# Altium footprint library SparkFun-Switches.PCBLIB: 50 footprints (part 4 of 5)
Each footprint in its own frame and in the unit in brackets; x right, y up, seen from the top. Pads: shape width x height; smd on the part's side, far side on the other; paste and mask are expansions set on the pad; w line width, h text height; cw(c..) or ccw(c..) is an arc to the next point about the centre after c.
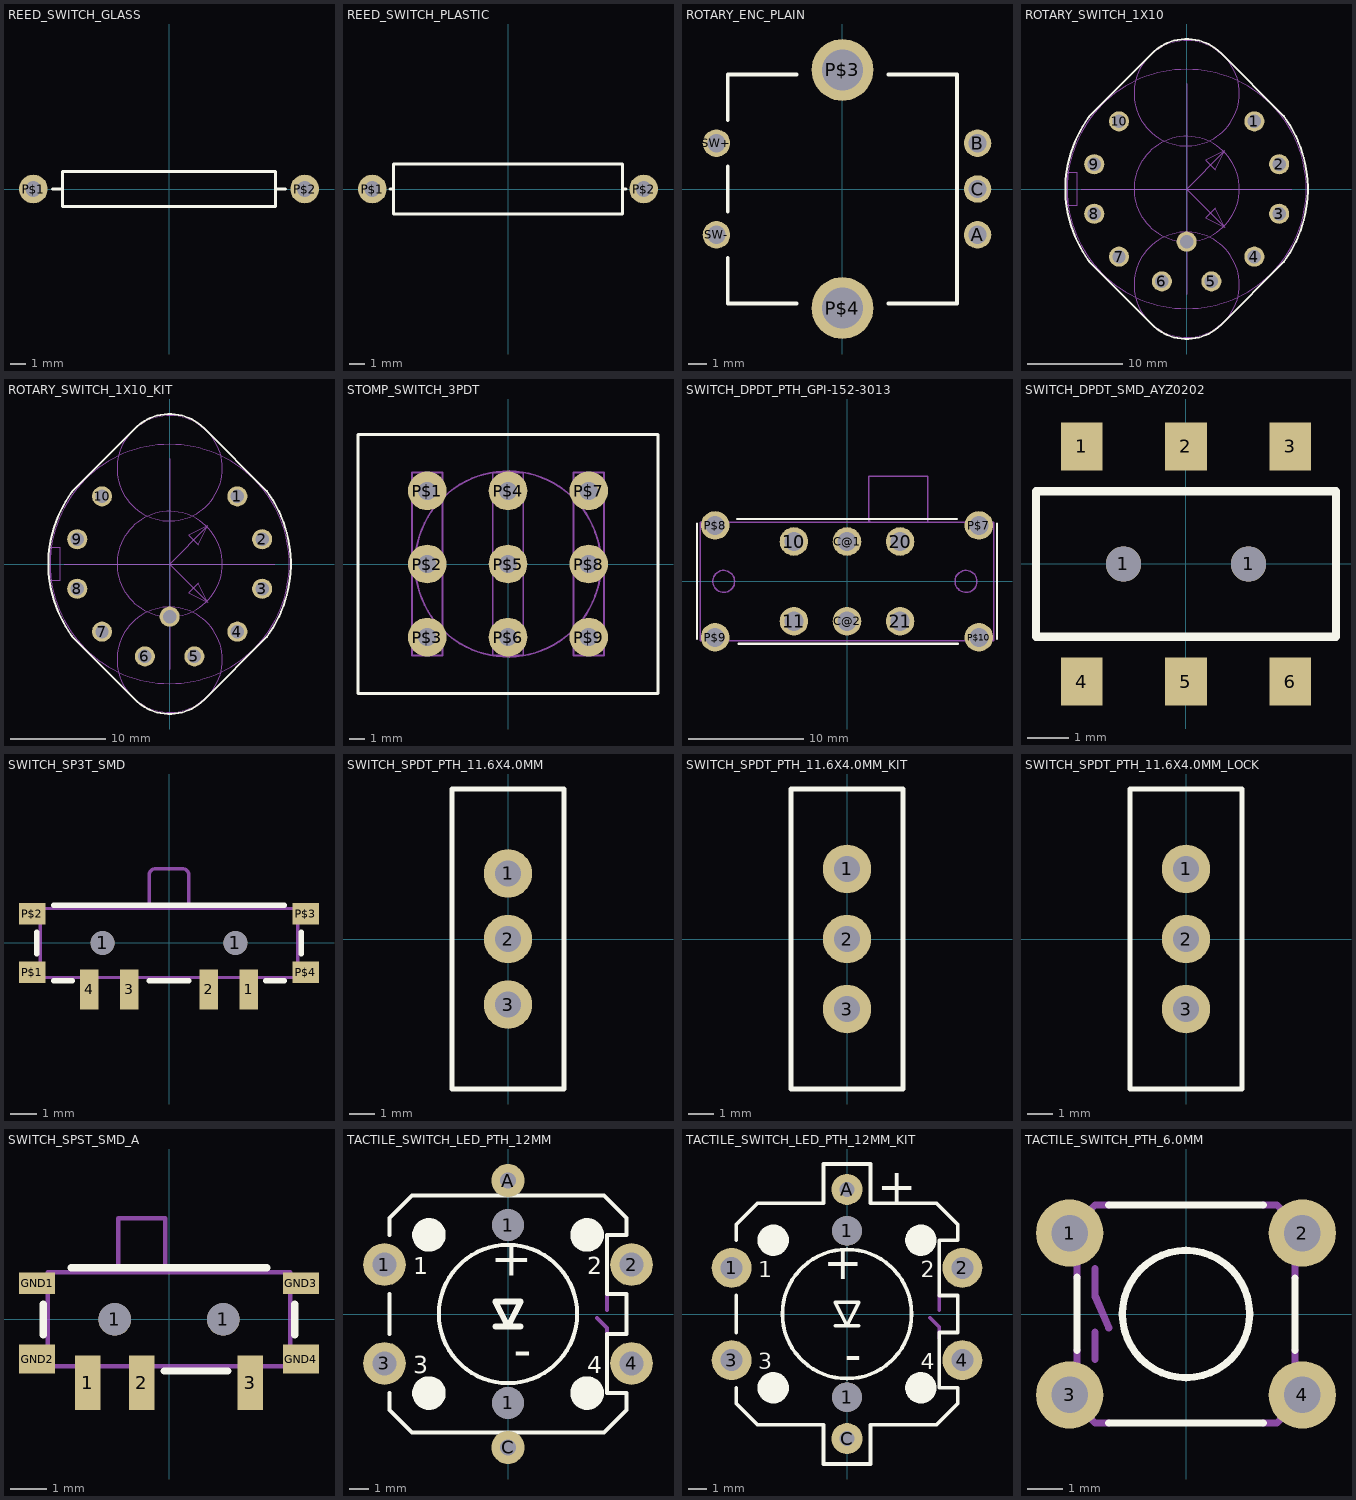
[diagram p3: the footprints below, top view; thin cyan lines are the x and y axes]

## REED_SWITCH_GLASS [mil]
pads (2):
  round 74 hole 40: P$1(-350,0) P$2(350,0)
Top Overlay:
  lines w8: -300,0 -275,0 ; 300,0 275,0 ; -275,0 -275,-45 275,-45 275,0 ; -275,0 -275,45 275,45 275,0

## REED_SWITCH_PLASTIC [mil]
pads (2):
  round 74 hole 40: P$1(-350,0) P$2(350,0)
Top Overlay:
  lines w8: -303.94,0 -295.28,0 ; 303.94,0 295.28,0 ; -295.28,0 -295.28,-64.96 295.28,-64.96 295.28,0 ; -295.28,0 -295.28,64.96 295.28,64.96 295.28,0

## ROTARY_ENC_PLAIN [mil]
pads (7):
  round 60 hole 40: A(295,-100) B(295,100) C(295,0) SW+(-275,100) SW-(-275,-100)
  round 135 hole 90: P$3(0,260) P$4(0,-260)
Top Overlay:
  lines w8: -250,-150 -250,-250 -100,-250 ; -250,-50 -250,50 ; -250,150 -250,250 -100,250 ; 100,-250 250,-250 250,250 100,250

## ROTARY_SWITCH_1X10 [mil]
pads (11):
  round 82.68 hole 55.12: 1(278.39,278.39) 2(380.29,101.9) 3(380.29,-101.9) 4(278.39,-278.39) 5(101.9,-380.29) 6(-101.9,-380.29) 7(-278.39,-278.39) 8(-380.29,-101.9) 9(-380.29,101.9) 10(-278.39,278.39) COMMON(0,-216.54)
Top Overlay:
  lines w8: -415.1,-277.35 cw(c0.92,0) -415.1,277.35 -400,300 -141.42,558.58 cw(c0,417.16) 141.42,558.58 400,300 414.18,278.73 cw(c-3.91,0) 414.18,-278.73 400,-300 141.42,-558.58 cw(c0,-417.16) -141.42,-558.58 -400,-300 -415.1,-277.35
Mechanical 16:
  circle w5: c0,0 r216.54
  circle w5: c0,0 r492.13
  circle w5: c0,393.7 r216.54
  circle w5: c0,-393.7 r216.54
  lines w5: -433.07,0 0,0 ; 0,-433.07 0,0 ; 0,433.07 0,0 ; 433.07,0 0,0 ; 0,0 157.48,-157.48 ; 0,0 157.48,157.48 ; 157.48,-157.48 118.11,-78.74 78.74,-118.11 157.48,-157.48 ; 157.48,157.48 78.74,118.11 118.11,78.74 157.48,157.48 ; -492.13,-68.9 -452.76,-68.9 -452.76,68.9 -492.13,68.9 -492.13,-68.9
  text "1" at 157.48,-196.85 h42.5
  text "10" at 157.48,157.48 h42.5

## ROTARY_SWITCH_1X10_KIT [mil]
pads (11):
  round 82.68 hole 55.12: 1(278.39,278.39) 2(380.29,101.9) 3(380.29,-101.9) 4(278.39,-278.39) 5(101.9,-380.29) 6(-101.9,-380.29) 7(-278.39,-278.39) 8(-380.29,-101.9) 9(-380.29,101.9) 10(-278.39,278.39) COMMON(0,-216.54)
Top Overlay:
  lines w8: -415.1,-277.35 cw(c0.92,0) -415.1,277.35 -400,300 -141.42,558.58 cw(c0,417.16) 141.42,558.58 400,300 414.18,278.73 cw(c-3.91,0) 414.18,-278.73 400,-300 141.42,-558.58 cw(c0,-417.16) -141.42,-558.58 -400,-300 -415.1,-277.35
Top Solder:
  circle w0: c-278.39,278.39 r27.56
  circle w0: c-380.29,101.9 r27.56
  circle w0: c-380.29,-101.9 r27.56
  circle w0: c-278.39,-278.39 r27.56
  circle w0: c0,-216.54 r27.56
  circle w0: c-101.9,-380.29 r27.56
  circle w0: c101.9,-380.29 r27.56
  circle w0: c278.39,-278.39 r27.56
  circle w0: c380.29,-101.9 r27.56
  circle w0: c380.29,101.9 r27.56
  circle w0: c278.39,278.39 r27.56
Bottom Solder:
  circle w0: c-278.39,278.39 r41.34
  circle w0: c-380.29,101.9 r41.34
  circle w0: c-380.29,-101.9 r41.34
  circle w0: c0,-216.54 r41.34
  circle w0: c-278.39,-278.39 r41.34
  circle w0: c-101.9,-380.29 r41.34
  circle w0: c101.9,-380.29 r41.34
  circle w0: c278.39,-278.39 r41.34
  circle w0: c380.29,-101.9 r41.34
  circle w0: c380.29,101.9 r41.34
  circle w0: c278.39,278.39 r41.34
Mechanical 16:
  circle w5: c0,0 r216.54
  circle w5: c0,0 r492.13
  circle w5: c0,393.7 r216.54
  circle w5: c0,-393.7 r216.54
  lines w5: -433.07,0 0,0 ; 0,-433.07 0,0 ; 0,433.07 0,0 ; 433.07,0 0,0 ; 0,0 157.48,-157.48 ; 0,0 157.48,157.48 ; 157.48,-157.48 118.11,-78.74 78.74,-118.11 157.48,-157.48 ; 157.48,157.48 78.74,118.11 118.11,78.74 157.48,157.48 ; -492.13,-68.9 -452.76,-68.9 -452.76,68.9 -492.13,68.9 -492.13,-68.9
  text "1" at 157.48,-196.85 h42.5
  text "10" at 157.48,157.48 h42.5

## STOMP_SWITCH_3PDT [mil]
pads (9):
  round 100 hole 47.24: P$1(-208.66,188.98) P$2(-208.66,0) P$3(-208.66,-188.98) P$4(0,188.98) P$5(0,0) P$6(0,-188.98) P$7(208.66,188.98) P$8(208.66,0) P$9(208.66,-188.98)
Top Overlay:
  lines w8: -387.8,-334.65 387.8,-334.65 387.8,334.65 -387.8,334.65 -387.8,-334.65
Mechanical 16:
  circle w5: c0,0 r240.16
  lines w5: -248.03,-236.22 -248.03,236.22 -169.29,236.22 -169.29,-236.22 -248.03,-236.22 ; -39.37,-236.22 39.37,-236.22 39.37,236.22 -39.37,236.22 -39.37,-236.22 ; 169.29,-236.22 169.29,236.22 248.03,236.22 248.03,-236.22 169.29,-236.22

## SWITCH_DPDT_PTH_GPI-152-3013 [mm]
pads (10):
  round 2.475 hole 1.65: 10(-4.6,3.455) 11(-4.6,-3.455) 20(4.6,3.455) 21(4.6,-3.455) C@1(0,3.455) C@2(0,-3.455) P$7(11.43,4.85) P$8(-11.43,4.85) P$9(-11.43,-4.85) P$10(11.43,-4.85)
Top Overlay:
  lines w0.203: -13,-5 -13,5 ; -9.5,5.4 9.5,5.4 ; -9.4,-5.4 9.6,-5.4 ; 13,-5 13,5
Mechanical 16:
  circle w0.127: c10.31,0 r0.952
  circle w0.127: c-10.69,0 r0.952
  lines w0.127: 2,5.2 1.9,5.2 1.9,9.1 7,9.1 7,5.2 ; -12.7,-5.13 -12.7,5.13 12.7,5.13 12.7,-5.13 -12.7,-5.13

## SWITCH_DPDT_SMD_AYZ0202 [mm]
pads (8):
  rect 1x1.15 smd: 1(-2.5,2.825) 2(0,2.825) 3(2.5,2.825) 4(-2.5,-2.825) 5(0,-2.825) 6(2.5,-2.825)
  round 0.85 hole 0.85: 1(-1.5,0) 1(1.5,0)
Top Overlay:
  lines w0.203: -3.6,-1.75 -3.6,1.75 3.6,1.75 3.6,-1.75 -3.6,-1.75

## SWITCH_SP3T_SMD [mm]
pads (10):
  round 0.9 hole 0.9: 1(-2.5,0) 1(2.5,0)
  rect 0.7x1.5 smd: 1(3,-1.75) 2(1.5,-1.75) 3(-1.5,-1.75) 4(-3,-1.75)
  rect 1x0.8 smd: P$1(-5.15,-1.1) P$2(-5.15,1.1) P$3(5.15,1.1) P$4(5.15,-1.1)
Top Overlay:
  lines w0.203: -4.977,-0.4 -4.977,0.4 ; -4.35,-1.427 -3.65,-1.427 ; -4.35,1.427 4.35,1.427 ; -0.75,-1.427 0.75,-1.427 ; 3.65,-1.427 4.35,-1.427 ; 4.977,-0.4 4.977,0.4
Mechanical 16:
  rectangle: 1.3,-2.2 1.7,-1.3
  rectangle: 2.8,-2.2 3.2,-1.3
  rectangle: -1.7,-2.2 -1.3,-1.3
  rectangle: -3.2,-2.2 -2.8,-1.3
  rectangle: 4.85,0.9 5.35,1.3
  region: -4.85,1.3 -5.35,1.3 -5.35,0.9 -4.85,0.9
  region: -4.85,-0.9 -5.35,-0.9 -5.35,-1.3 -4.85,-1.3
  rectangle: 4.85,-1.3 5.35,-0.9
  lines w0.127: -0.75,1.3 -0.75,2.55 cw(c-0.5,2.55) -0.5,2.8 0.5,2.8 cw(c0.5,2.55) 0.75,2.55 0.75,1.3 ; -4.85,-1.3 4.85,-1.3 4.85,1.3 -4.85,1.3 -4.85,-1.3

## SWITCH_SPDT_PTH_11.6X4.0MM [mil]
pads (3):
  round 74 hole 40: 1(0,100) 2(0,0) 3(0,-100)
Top Overlay:
  lines w8: -85.63,-228.94 -85.63,228.94 85.63,228.94 85.63,-228.94 -85.63,-228.94

## SWITCH_SPDT_PTH_11.6X4.0MM_KIT [mil]
pads (3):
  round 74 hole 40: 1(0,107) 2(0,0) 3(0,-107)
Top Overlay:
  lines w8: -85.63,-228.94 -85.63,228.94 85.63,228.94 85.63,-228.94 -85.63,-228.94
Top Solder:
  region: 0,0 10,0 10,10 0,10
  region: 0,0 10,0 10,10 0,10
  region: 0,0 10,0 10,10 0,10
Bottom Solder:
  region: 0,0 10,0 10,10 0,10
  region: 0,0 10,0 10,10 0,10
  region: 0,0 10,0 10,10 0,10
Mechanical 16:
  rectangle: -9,-12 9,12
  rectangle: -9,88 9,112
  rectangle: -9,-112 9,-88

## SWITCH_SPDT_PTH_11.6X4.0MM_LOCK [mil]
pads (3):
  round 74 hole 40: 1(0,107) 2(0,0) 3(0,-107)
Top Overlay:
  lines w8: -85.63,-228.94 -85.63,228.94 85.63,228.94 85.63,-228.94 -85.63,-228.94
Mechanical 16:
  rectangle: -9,-12 9,12
  rectangle: -9,88 9,112
  rectangle: -9,-112 9,-88

## SWITCH_SPST_SMD_A [mm]
pads (9):
  rect 0.7x1.5 smd: 1(-2.25,-1.75) 2(-0.75,-1.75) 3(2.25,-1.75)
  round 0.9 hole 0.9: 1(-1.5,0) 1(1.5,0)
  rect 1x0.6 smd: GND1(-3.65,1) GND3(3.65,1)
  rect 1x0.8 smd: GND2(-3.65,-1.1) GND4(3.65,-1.1)
Top Overlay:
  lines w0.203: -3.477,-0.427 -3.477,0.427 ; -2.7,1.427 2.7,1.427 ; -0.127,-1.427 1.627,-1.427 ; 3.477,-0.427 3.477,0.427
Mechanical 16:
  lines w0.127: -1.4,1.3 -0.1,1.3 ; -1.4,1.3 -3.35,1.3 -3.35,-1.3 3.35,-1.3 3.35,1.3 -0.1,1.3 ; -1.4,1.3 -1.4,2.8 -0.1,2.8 -0.1,1.3

## TACTILE_SWITCH_LED_PTH_12MM [mil]
pads (8):
  round 85 hole 47.24: 1(-246.06,98.43) 2(246.06,98.43) 3(-246.06,-98.43) 4(246.06,-98.43)
  round 62.99 hole 62.99: 1(0,-177.17) 1(0,177.17)
  round 66 hole 31.5: A(0,265.75) C(0,-265.75)
Top Overlay:
  circle w8: c0,0 r137.8
  circle w35.43: c-157.48,157.48 r15.75
  circle w35.43: c157.48,157.48 r15.75
  circle w35.43: c157.48,-157.48 r15.75
  circle w35.43: c-157.48,-157.48 r15.75
  lines w8: -236.22,-157.48 -236.22,-190.94 -190.94,-236.22 190.94,-236.22 236.22,-190.94 236.22,-157.48 196.85,-157.48 196.85,-39.37 236.22,-39.37 236.22,39.37 196.85,39.37 196.85,157.48 236.22,157.48 236.22,190.94 190.94,236.22 -190.94,236.22 -236.22,190.94 -236.22,157.48 ; -236.22,-39.37 -236.22,39.37
  lines w12: -25,-25 0,-25 ; 25,-25 0,-25 ; 0,-25 -25,25 25,25 0,-25
  text "1" at -188.98,78.74 h34
  text "2" at 157.48,78.74 h34
  text "3" at -188.98,-118.11 h34
  text "4" at 157.48,-118.11 h34
  text "+" at 49.5,138 h73.1
  text "-" at 47.5,-51 h73.1
Mechanical 16:
  lines w8: 177.17,-7.87 196.85,-27.56 196.85,-51.18 ; 196.85,7.87 196.85,39.37

## TACTILE_SWITCH_LED_PTH_12MM_KIT [mil]
pads (8):
  round 85 hole 47.24: 1(-246.06,98.43) 2(246.06,98.43) 3(-246.06,-98.43) 4(246.06,-98.43)
  round 62.99 hole 62.99: 1(0,-177.17) 1(0,177.17)
  round 66 hole 31.5: A(0,265.75) C(0,-265.75)
Top Overlay:
  circle w8: c0,0 r137.8
  circle w35.43: c-157.48,157.48 r15.75
  circle w35.43: c157.48,157.48 r15.75
  circle w35.43: c157.48,-157.48 r15.75
  circle w35.43: c-157.48,-157.48 r15.75
  lines w8: -236.22,-157.48 -236.22,-190.94 -190.94,-236.22 -50,-236.22 -50,-320 50,-320 50,-236.22 190.94,-236.22 236.22,-190.94 236.22,-157.48 196.85,-157.48 196.85,-39.37 236.22,-39.37 236.22,39.37 196.85,39.37 196.85,157.48 236.22,157.48 236.22,190.94 190.94,236.22 50,236.22 50,320 -50,320 -50,236.22 -190.94,236.22 -236.22,190.94 -236.22,157.48 ; -236.22,-39.37 -236.22,39.37 ; -25,-25 0,-25 ; 25,-25 0,-25 ; 0,-25 -25,25 25,25 0,-25
  text "1" at -188.98,78.74 h34
  text "2" at 157.48,78.74 h34
  text "3" at -188.98,-118.11 h34
  text "4" at 157.48,-118.11 h34
  text "+" at 33.75,138 h73.1
  text "-" at 31.75,-66.75 h73.1
  text "+" at 64.67,236.02 h73.1
Top Solder:
  region: 0,0 10,0 10,10 0,10
  region: 0,0 10,0 10,10 0,10
  region: 0,0 10,0 10,10 0,10
  region: 0,0 10,0 10,10 0,10
  region: 0,0 10,0 10,10 0,10
  region: 0,0 10,0 10,10 0,10
Bottom Solder:
  region: 0,0 10,0 10,10 0,10
  region: 0,0 10,0 10,10 0,10
  region: 0,0 10,0 10,10 0,10
  region: 0,0 10,0 10,10 0,10
  region: 0,0 10,0 10,10 0,10
  region: 0,0 10,0 10,10 0,10
Mechanical 16:
  lines w8: 177.17,-7.87 196.85,-27.56 196.85,-51.18 ; 196.85,7.87 196.85,39.37

## TACTILE_SWITCH_PTH_6.0MM [mil]
pads (4):
  round 74 hole 40: 1(-128,89) 2(128,89) 3(-128,-89) 4(128,-89)
Top Overlay:
  circle w8: c0,0 r70
  lines w8: -120,-40 -120,40.47 ; -85,-120 85,-120 ; -85,120 85,120 ; 120,-40 120,39.29
Mechanical 16:
  lines w8: -120,-40 -120,-100 -100,-120 -85,-120 ; -120,40 -120,100 -100,120 -85,120 ; -100,-50 -100,-20 ; -100,50 -100,20 -85,-15 ; 85,-120 100,-120 120,-100 120,-40 ; 85,120 100,120 120,100 120,40